# Altium schematic symbol library IC_Texas_Instruments_TPSM84A21MOJR_eec.SchLib: 1 symbol
Pins are listed as number, name and electrical type; pins without a type are passive.

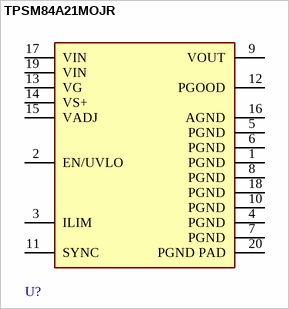
[diagram p0: symbol TPSM84A21MOJR]

## TPSM84A21MOJR
designator U?  (value not drawn)
pins: 1 PGND, 2 EN/UVLO, 3 ILIM, 4 PGND, 5 PGND, 6 PGND, 7 PGND, 8 PGND, 9 VOUT, 10 PGND, 11 SYNC, 12 PGOOD, 13 VG, 14 VS+, 15 VADJ, 16 AGND, 17 VIN, 18 PGND, 19 VIN, 20 PGND PAD